# EAGLE library part CHRG-MC34673 (library eagleLib v2)
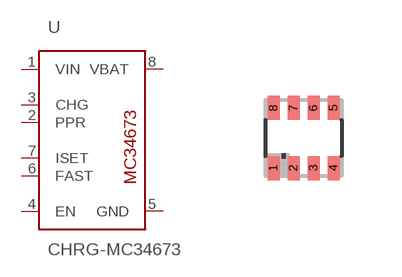
[diagram p32: symbol with the pads of UDFN8; footprint UDFN8]

Designator prefix -

## CHRG-MC34673-UDFN  [UDFN8]
1  VIN
2  PPR
3  CHG
4  EN
5  GND
6  FAST
7  ISET
8  VBAT

## Footprint UDFN8 (pad centres in mm)
uDFN 8 Source: http://datasheets.maxim-ic.com/en/ds/MAX4906-MAX4907F.pdf
smd 0.3 x 0.6: 1 -0.75,-0.75; 2 -0.25,-0.75; 3 0.25,-0.75; 4 0.75,-0.75; 5 0.75,0.75; 6 0.25,0.75; 7 -0.25,0.75; 8 -0.75,0.75